# EAGLE library part XF2*-16? (library con-omron)
OMRON FPC Connector Source : http://www.omron.com/ecb/products/pdf/fpc.pdf
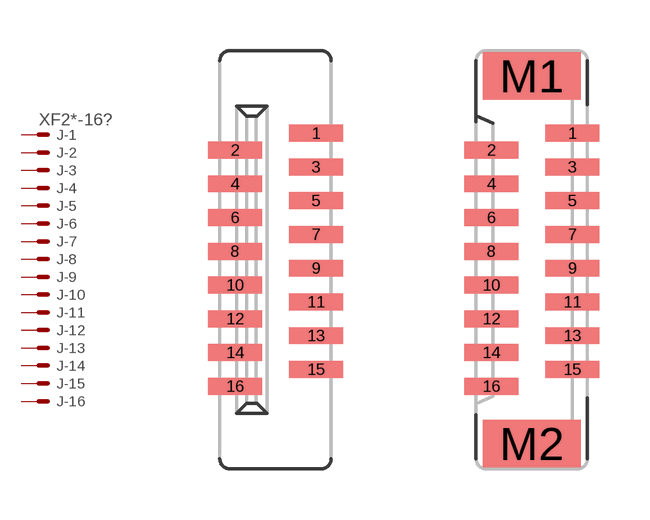
[diagram p15: symbol with the pads of XF2G-1614-11; footprints XF2G-1614-11, XF2J-1624-11]

Designator prefix J; gates -1=PV -2=P -3=P -4=P -5=P -6=P -7=P -8=P -9=P -10=P -11=P -12=P -13=P -14=P -15=P -16=P

## XF2G-1614-11 (MF: OMRON COMPONENTS USA; MPN: XF2G-1614-11; OC_FARNELL: 4785990; OC_NEWARK: 29C7833)  [XF2G-1614-11]
1  -1:MSV  pas
2  -2:MS  pas
3  -3:MS  pas
4  -4:MS  pas
5  -5:MS  pas
6  -6:MS  pas
7  -7:MS  pas
8  -8:MS  pas
9  -9:MS  pas
10  -10:MS  pas
11  -11:MS  pas
12  -12:MS  pas
13  -13:MS  pas
14  -14:MS  pas
15  -15:MS  pas
16  -16:MS  pas

## XF2J-1624-11 (MPN: XF2J-1624-11; OC_FARNELL: unknown; OC_NEWARK: 37M0828)  [XF2J-1624-11]
Pads as for XF2G-1614-11

## XF2J-1624-12 (OC_FARNELL: unknown; OC_NEWARK: unknown)  [XF2J-1624-12]
Pads as for XF2G-1614-11

## Footprint XF2G-1614-11 (pad centres in mm)
Non-ZIF Type (0.5 mm-pitch) Source : http://www.omron.com/ecb/products/pdf/fpc.pdf
smd 1.6 x 0.5: 1 1.2,3.75; 2 -1.2,3.25; 3 1.2,2.75; 4 -1.2,2.25; 5 1.2,1.75; 6 -1.2,1.25; 7 1.2,0.75; 8 -1.2,0.25; 9 1.2,-0.25; 10 -1.2,-0.75; 11 1.2,-1.25; 12 -1.2,-1.75; 13 1.2,-2.25; 14 -1.2,-2.75; 15 1.2,-3.25; 16 -1.2,-3.75

## Footprint XF2J-1624-11 (pad centres in mm)
ZIF Slide-locking Type (0.5 mm-pitch) Standard Source : http://www.omron.com/ecb/products/pdf/fpc.pdf
smd 1.6 x 0.5: 1 1.2,3.75; 2 -1.2,3.25; 3 1.2,2.75; 4 -1.2,2.25; 5 1.2,1.75; 6 -1.2,1.25; 7 1.2,0.75; 8 -1.2,0.25; 9 1.2,-0.25; 10 -1.2,-0.75; 11 1.2,-1.25; 12 -1.2,-1.75; 13 1.2,-2.25; 14 -1.2,-2.75; 15 1.2,-3.25; 16 -1.2,-3.75
smd 2.9 x 1.4: M1 0,5.45; M2 0,-5.45

## Footprint XF2J-1624-12 (pad centres in mm)
ZIF Slide-locking Type (0.5 mm-pitch) Reverse Source : http://www.omron.com/ecb/products/pdf/fpc.pdf
smd 1.6 x 0.5: 1 -1.2,3.75; 2 1.2,3.25; 3 -1.2,2.75; 4 1.2,2.25; 5 -1.2,1.75; 6 1.2,1.25; 7 -1.2,0.75; 8 1.2,0.25; 9 -1.2,-0.25; 10 1.2,-0.75; 11 -1.2,-1.25; 12 1.2,-1.75; 13 -1.2,-2.25; 14 1.2,-2.75; 15 -1.2,-3.25; 16 1.2,-3.75
smd 2.9 x 1.4: M1 0,5.45; M2 0,-5.45